# Altium footprint library PCB - MISC - DIP-SW-4p.PCBLIB: 1 footprints
Each footprint in its own frame and in the unit in brackets; x right, y up, seen from the top. Pads: shape width x height; smd on the part's side, far side on the other; paste and mask are expansions set on the pad; w line width, h text height; cw(c..) or ccw(c..) is an arc to the next point about the centre after c.
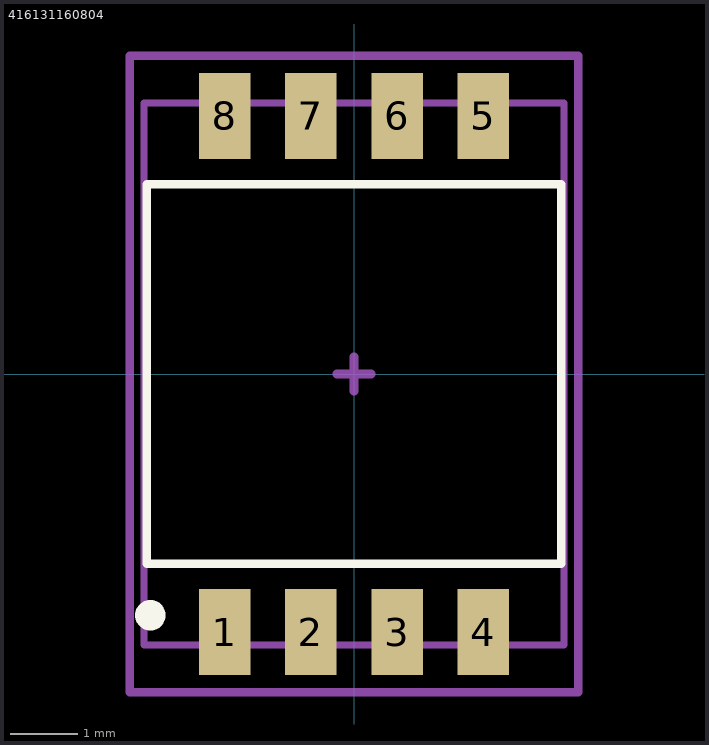
[diagram p0: the footprint, top view; thin cyan lines are the x and y axes]

## 416131160804 [mm] "04p, 1.27mm Pitch, Horizontal, HP Type, SMT, flat Actuator, black, with Tape, T&R"
height 3.3
pads (8):
  rect 0.76x1.27 smd: 1(-1.905,-3.81) 2(-0.635,-3.81) 3(0.635,-3.81) 4(1.905,-3.81) 5(1.905,3.81) 6(0.635,3.81) 7(-0.635,3.81) 8(-1.905,3.81)
Top Overlay:
  circle w0.25: c-3.005,-3.56 r0.1
  lines w0.127: -3.06,-2.8 3.06,-2.8 3.06,2.8 -3.06,2.8 -3.06,-2.8
Top Assembly:
  lines w0.1: -3.1,-4 -3.1,4 3.1,4 3.1,-4 -3.1,-4
Top Courtyard:
  lines w0.127: -3.31,-4.695 3.31,-4.695 3.31,4.695 -3.31,4.695 -3.31,-4.695
Top Designator:
  text ".Designator" at -0.127,0 h1
Top Component Center:
  lines w0.127: -0.254,0 0.254,0 ; 0,-0.254 0,0.254
Top Value (Mech13):
  text ".Comment" at -0.127,-1.27 h1
3D body "416131160804.stp": height 2.06, standoff -0.04, extent -3.06,-4 3.06,4